# EAGLE library part ESP13 (library Cytrill)
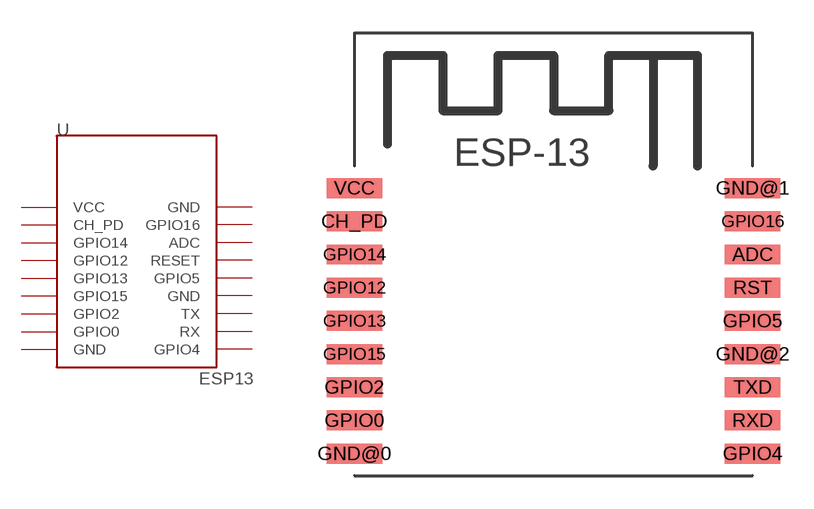
[diagram p1: symbol with the pads of ESP13; footprint ESP13]

Designator prefix U

## ESP13  [ESP13]
ADC  ADC
CH_PD  CH_PD
GND@0  GND
GND@1  GND
GND@2  GND
GPIO0  GPIO0
GPIO2  GPIO2
GPIO4  GPIO4
GPIO5  GPIO5
GPIO12  GPIO12
GPIO13  GPIO13
GPIO14  GPIO14
GPIO15  GPIO15
GPIO16  GPIO16
RST  RESET
RXD  RX
TXD  TX
VCC  VCC

## Footprint ESP13 (pad centres in mm)
smd 2.5 x 0.9: ADC 9,3; CH_PD -9,4.5; GND@0 -9,-6; GND@1 9,6; GND@2 9,-1.5; GPIO0 -9,-4.5; GPIO2 -9,-3; GPIO4 9,-6; GPIO5 9,0; GPIO12 -9,1.5; GPIO13 -9,0; GPIO14 -9,3; GPIO15 -9,-1.5; GPIO16 9,4.5; RST 9,1.5; RXD 9,-4.5; TXD 9,-3; VCC -9,6